# Altium footprint library lc125d.PcbLib: 1 footprints
Each footprint in its own frame and in the unit in brackets; x right, y up, seen from the top. Pads: shape width x height; smd on the part's side, far side on the other; paste and mask are expansions set on the pad; w line width, h text height; cw(c..) or ccw(c..) is an arc to the next point about the centre after c.
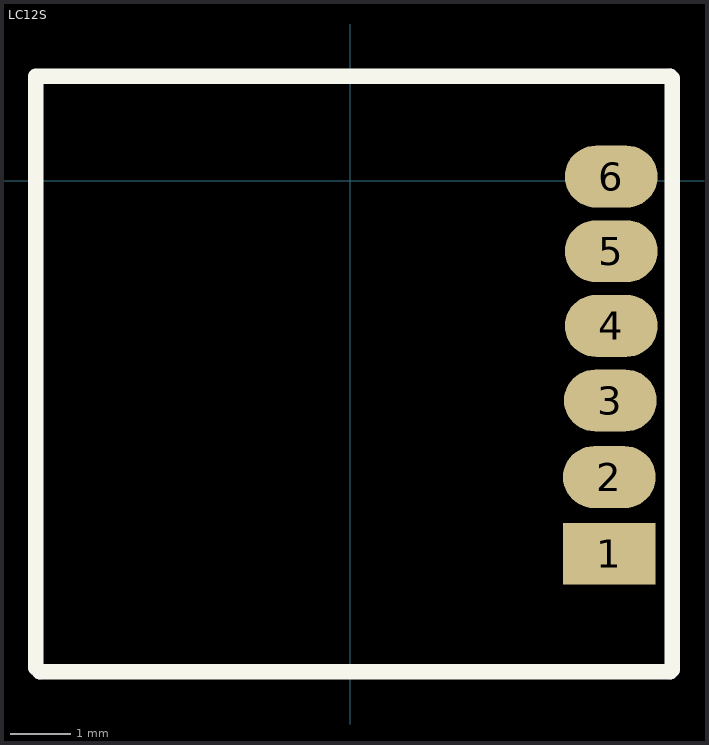
[diagram p0: the footprint, top view; thin cyan lines are the x and y axes]

## LC12S [mil]
pads (6):
  rect 60x40 smd: 1(167.64,-241.3)
  oval 60x40 smd: 2(167.64,-191.77) 3(168.29,-142.23) 4(168.91,-93.98) 5(168.91,-45.72) 6(168.91,2.54)
Top Overlay:
  lines w10: -203.2,-314.96 -203.2,67.31 ; -201.93,67.31 -140.97,67.31 ; -200.66,-317.5 207.01,-317.5 ; -191.77,67.31 207.01,67.31 ; 208.28,-316.23 208.28,66.04
Mechanical 1:
  lines w10: -203.2,-314.96 -200.66,-317.5 ; 207.01,-317.5 208.28,-316.23 ; 207.01,67.31 208.28,66.04
3D body: height 10, standoff 0, extent -50099.55,-50099.89 -49900,-49900.11
3D body "LQFP-48.step": height 63.11, standoff 0, extent -191.14,-309.25 170.83,52.72